# EAGLE library part MY_ARDUINO_MEGA (library smylbr[Conflict])
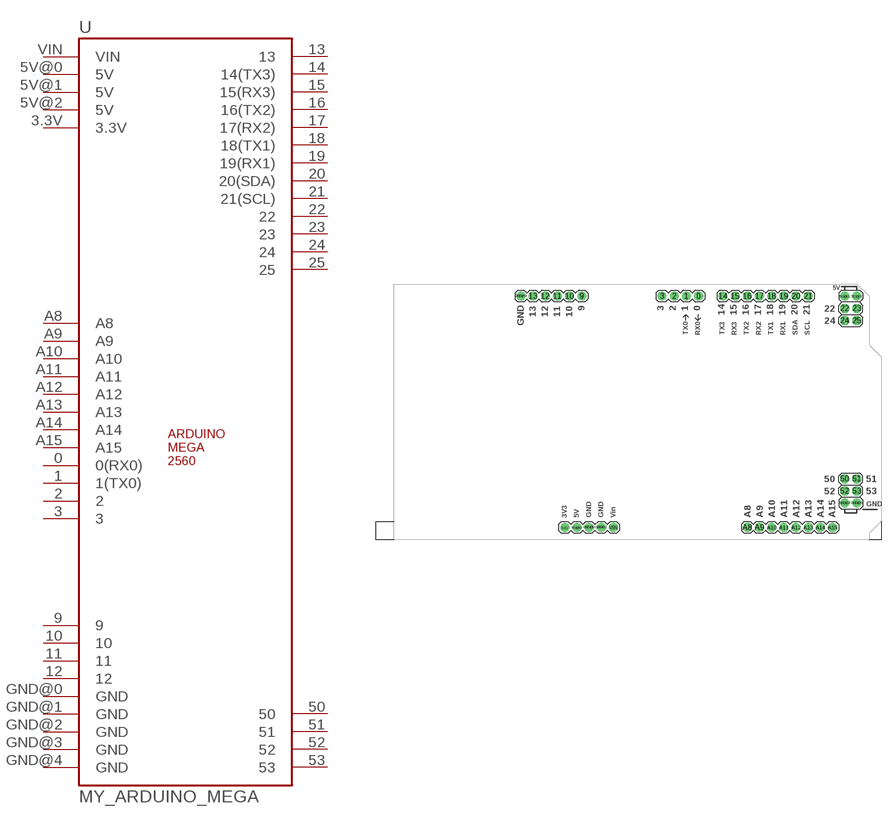
[diagram p1: symbol with the pads of ARDUINO_MEGA; footprint ARDUINO_MEGA]

Designator prefix -

## MY_ARDUINO_MEGA  [ARDUINO_MEGA]
0  0(RX0)
1  1(TX0)
2  2
3  3
3.3V  3.3V
5V@0  5V
5V@1  5V
5V@2  5V
9  9
10  10
11  11
12  12
13  13
14  14(TX3)
15  15(RX3)
16  16(TX2)
17  17(RX2)
18  18(TX1)
19  19(RX1)
20  20(SDA)
21  21(SCL)
22  22
23  23
24  24
25  25
50  50
51  51
52  52
53  53
A8  A8
A9  A9
A10  A10
A11  A11
A12  A12
A13  A13
A14  A14
A15  A15
GND@0  GND
GND@1  GND
GND@2  GND
GND@3  GND
GND@4  GND
VIN  VIN

## Footprint ARDUINO_MEGA (pad centres in mm)
drill 1.016 pad 1.88: 0 0,21.59; 1 -2.54,21.59; 2 -5.08,21.59; 3 -7.62,21.59; 3.3V -27.94,-26.67; 5V@0 -25.4,-26.67; 5V@1 30.48,21.59; 5V@2 33.02,21.59; 9 -24.384,21.59; 10 -26.924,21.59; 11 -29.464,21.59; 12 -32.004,21.59; 13 -34.544,21.59; 14 5.08,21.59; 15 7.62,21.59; 16 10.16,21.59; 17 12.7,21.59; 18 15.24,21.59; 19 17.78,21.59; 20 20.32,21.59; 21 22.86,21.59; A8 10.16,-26.67; A9 12.7,-26.67; A10 15.24,-26.67; A11 17.78,-26.67; A12 20.32,-26.67; A13 22.86,-26.67; A14 25.4,-26.67; A15 27.94,-26.67; GND@0 -22.86,-26.67; GND@1 -20.32,-26.67; GND@2 30.48,-21.59; GND@3 33.02,-21.59; GND@4 -37.084,21.59; VIN -17.78,-26.67
drill 1.016 pad 1.88 octagon: 22 30.48,19.05; 23 33.02,19.05; 24 30.48,16.51; 25 33.02,16.51; 50 30.48,-16.51; 51 33.02,-16.51; 52 30.48,-19.05; 53 33.02,-19.05